# Altium schematic symbol library LED 0805.SchLib: 1 symbol
Pins are listed as number, name and electrical type; pins without a type are passive.

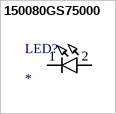
[diagram p0: symbol 150080GS75000]

## 150080GS75000
designator LED?
LED; Manufacturer_Name: Wurth Elektronik; Manufacturer_Part_Number: 150080GS75000; Datasheet Link: https://katalog.we-online.com/led/datasheet/150080GS75000.pdf; Height: 0.8mm; Mouser Part Number: 710-150080GS75000; Mouser Price/Stock: https://www.mouser.com/Search/Refine.aspx?Keyword=710-150080GS75000; RS Part Number: 1623746; RS Price/Stock: http://uk.rs-online.com/web/p/products/1623746
footprint LEDM2012X80N
pins: 1 K, 2 A